# Altium footprint library ECS-250-12-33-AGN-TR.PcbLib: 1 footprints
Each footprint in its own frame and in the unit in brackets; x right, y up, seen from the top. Pads: shape width x height; smd on the part's side, far side on the other; paste and mask are expansions set on the pad; w line width, h text height; cw(c..) or ccw(c..) is an arc to the next point about the centre after c.
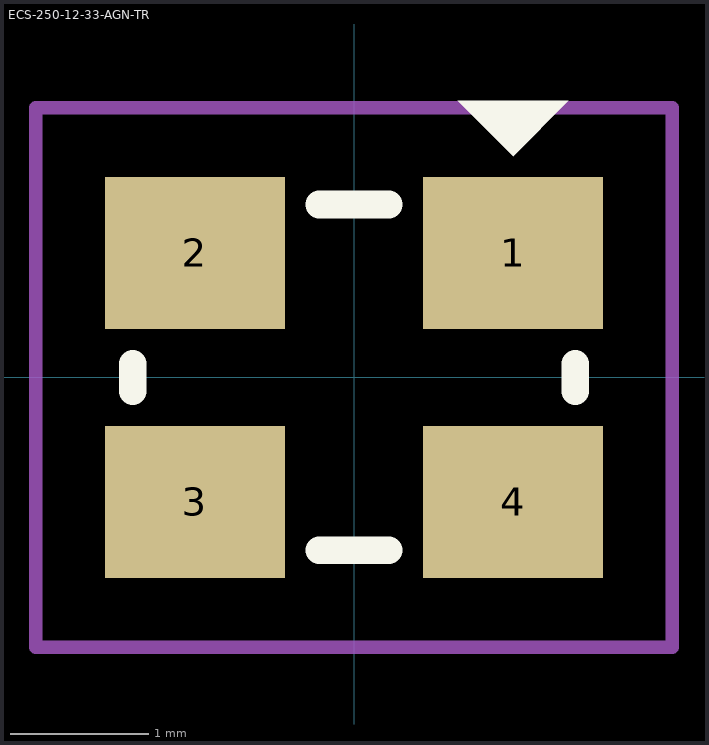
[diagram p0: the footprint, top view; thin cyan lines are the x and y axes]

## ECS-250-12-33-AGN-TR [mm]
pads (4):
  rect 1.3x1.1 smd: 1(1.15,0.9) 2(-1.15,0.9) 3(-1.15,-0.9) 4(1.15,-0.9)
Top Overlay:
  region: 0.75,2 1.55,2 1.15,1.6
  lines w0.2: -1.6,-0.1 -1.6,0.1 ; -0.25,-1.25 0.25,-1.25 ; -0.25,1.25 0.25,1.25 ; 1.6,-0.1 1.6,0.1
Top Courtyard:
  lines w0.1: -2.3,-1.95 -1.8,-1.95 2.3,-1.95 2.3,1.95 -2.3,1.95 -2.3,-1.95
3D body "step_temp.STEP": height 0.8, standoff 0, extent -1.6,-1.25 1.6,1.25